# Altium schematic symbol library Schlib.SchLib: 39 symbols
Pins are listed as number, name and electrical type; pins without a type are passive.

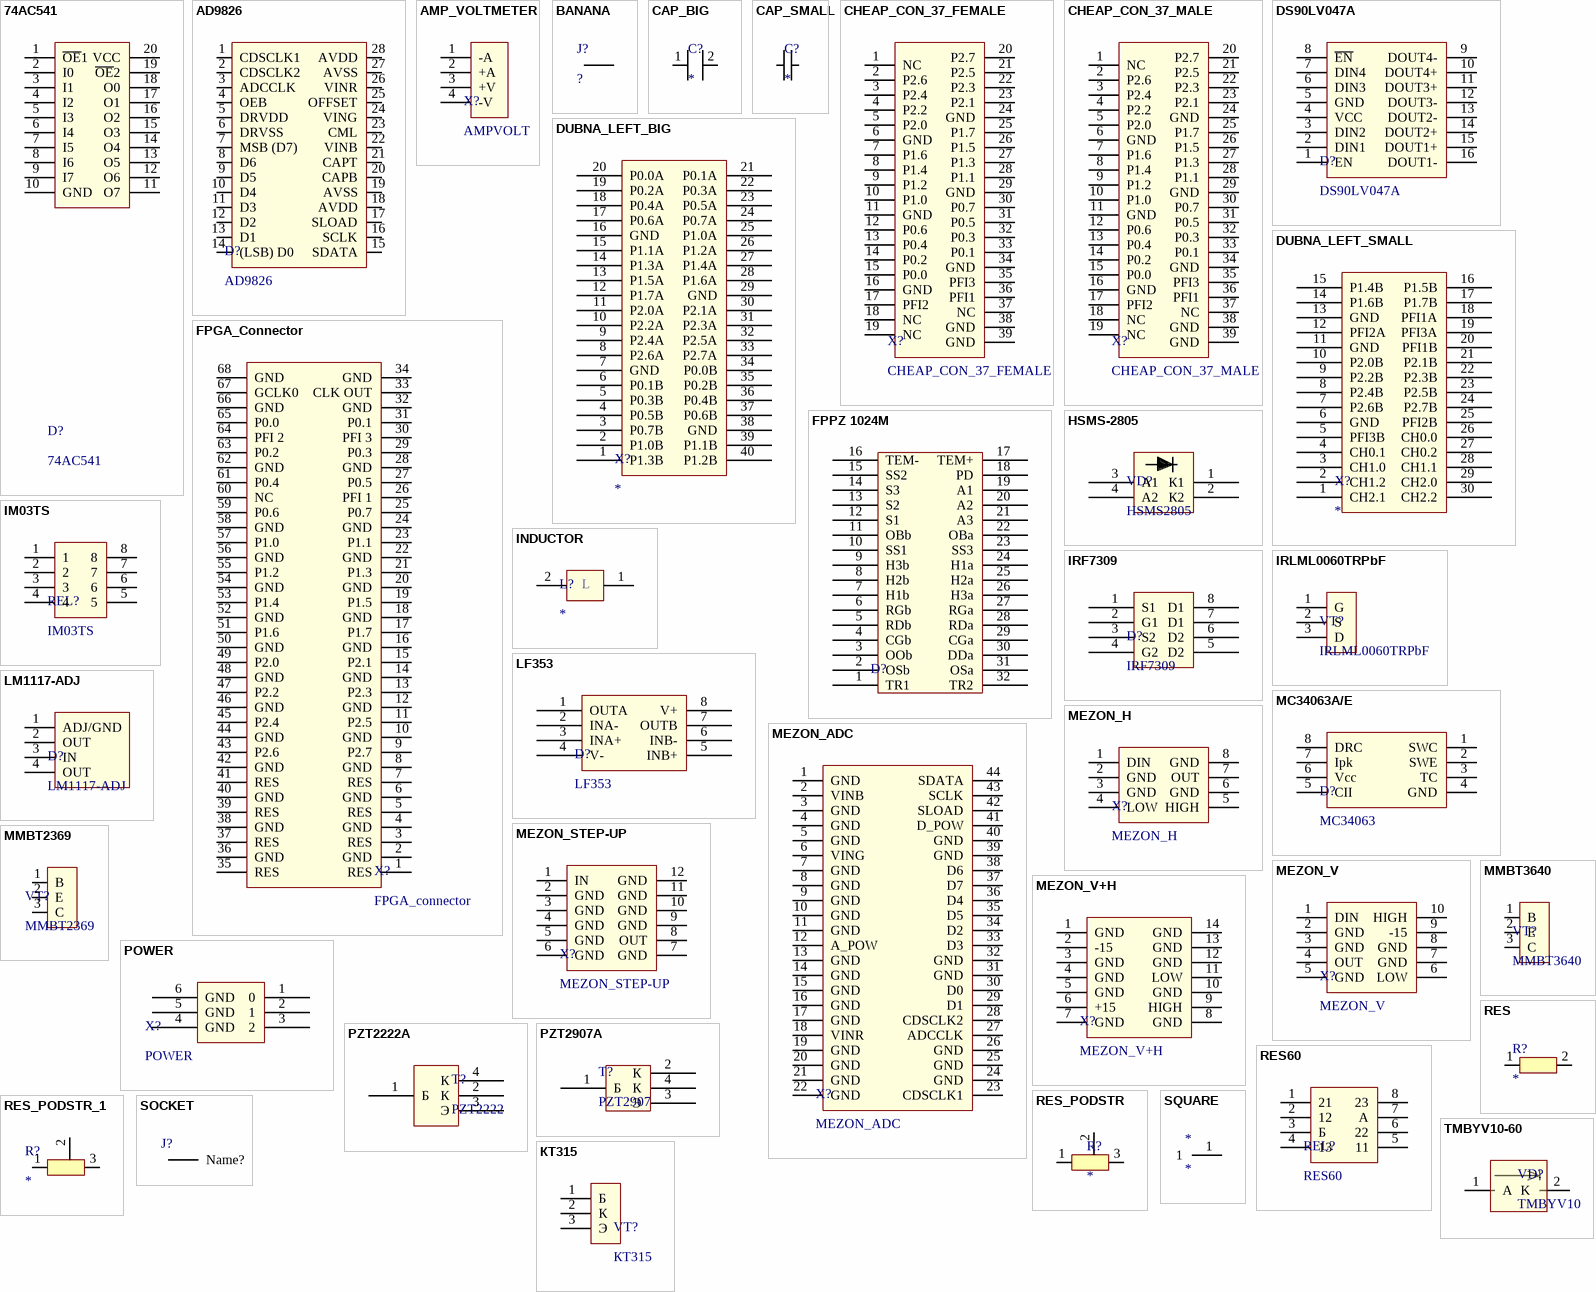
[diagram p0: symbols 74AC541 to КТ315]

## 74AC541
designator D?
footprint 20S_M (20-Pin Small Outline Integrated Circuit 1.27 mm Pitch, IPC Low Density)
pins: 1 ~{OE}1, 2 I0, 3 I1, 4 I2, 5 I3, 6 I4, 7 I5, 8 I6, 9 I7, 10 GND, 11 O7, 12 O6, 13 O5, 14 O4, 15 O3, 16 O2, 17 O1, 18 O0, 19 ~{OE}2, 20 VCC

## AD9826
designator D?
footprint SSOP-28
pins: 1 CDSCLK1, 2 CDSCLK2, 3 ADCCLK, 4 OEB, 5 DRVDD, 6 DRVSS, 7 MSB (D7), 8 D6, 9 D5, 10 D4, 11 D3, 12 D2, 13 D1, 14 (LSB) D0, 15 SDATA, 16 SCLK, 17 SLOAD, 18 AVDD, 19 AVSS, 20 CAPB, 21 CAPT, 22 VINB, 23 CML, 24 VING, 25 OFFSET, 26 VINR, 27 AVSS, 28 AVDD

## AMP_VOLTMETER
designator X?, comment AMPVOLT
footprint AMP_VOLTMETER
pins: 1 -A, 2 +A, 3 +V, 4 -V

## BANANA
designator J?, comment ?
footprint BANANA
pins: 1 BANAN

## CAP_BIG
designator C?
footprint Cap_BIG (FROM_MAX)
pins: 1, 2

## CAP_SMALL
designator C?
0805
footprint CAP_SMALL (FROM_MAX)
pins: 1, 2

## CHEAP_CON_37_FEMALE
designator X?
footprint CHEAP_CONN_FEMALE
pins: 1 NC, 2 P2.6, 3 P2.4, 4 P2.2, 5 P2.0, 6 GND, 7 P1.6, 8 P1.4, 9 P1.2, 10 P1.0, 11 GND, 12 P0.6, 13 P0.4, 14 P0.2, 15 P0.0, 16 GND, 17 PFI2, 18 NC, 19 NC, 20 P2.7, 21 P2.5, 22 P2.3, 23 P2.1, 24 GND, 25 P1.7, 26 P1.5, 27 P1.3, 28 P1.1, 29 GND, 30 P0.7, 31 P0.5, 32 P0.3, 33 P0.1, 34 GND, 35 PFI3, 36 PFI1, 37 NC, 38 GND, 39 GND

## CHEAP_CON_37_MALE
designator X?
footprint CHEAP_CONN_MALE
pins: 1 NC, 2 P2.6, 3 P2.4, 4 P2.2, 5 P2.0, 6 GND, 7 P1.6, 8 P1.4, 9 P1.2, 10 P1.0, 11 GND, 12 P0.6, 13 P0.4, 14 P0.2, 15 P0.0, 16 GND, 17 PFI2, 18 NC, 19 NC, 20 P2.7, 21 P2.5, 22 P2.3, 23 P2.1, 24 GND, 25 P1.7, 26 P1.5, 27 P1.3, 28 P1.1, 29 GND, 30 P0.7, 31 P0.5, 32 P0.3, 33 P0.1, 34 GND, 35 PFI3, 36 PFI1, 37 NC, 38 GND, 39 GND

## DS90LV047A
designator D?
footprint SOP65P640X110-16N
pins: 1 EN, 2 DIN1, 3 DIN2, 4 VCC, 5 GND, 6 DIN3, 7 DIN4, 8 ~{EN}, 9 DOUT4-, 10 DOUT4+, 11 DOUT3+, 12 DOUT3-, 13 DOUT2-, 14 DOUT2+, 15 DOUT1+, 16 DOUT1-

## DUBNA_LEFT_BIG
designator X?
footprint DUBNA_LEFT_BIG
pins: 1 P1.3B, 2 P1.0B, 3 P0.7B, 4 P0.5B, 5 P0.3B, 6 P0.1B, 7 GND, 8 P2.6A, 9 P2.4A, 10 P2.2A, 11 P2.0A, 12 P1.7A, 13 P1.5A, 14 P1.3A, 15 P1.1A, 16 GND, 17 P0.6A, 18 P0.4A, 19 P0.2A, 20 P0.0A, 21 P0.1A, 22 P0.3A, 23 P0.5A, 24 P0.7A, 25 P1.0A, 26 P1.2A, 27 P1.4A, 28 P1.6A, 29 GND, 30 P2.1A, 31 P2.3A, 32 P2.5A, 33 P2.7A, 34 P0.0B, 35 P0.2B, 36 P0.4B, 37 P0.6B, 38 GND, 39 P1.1B, 40 P1.2B

## DUBNA_LEFT_SMALL
designator X?
footprint DUBNA_LEFT_SMALL
pins: 1 CH2.1, 2 CH1.2, 3 CH1.0, 4 CH0.1, 5 PFI3B, 6 GND, 7 P2.6B, 8 P2.4B, 9 P2.2B, 10 P2.0B, 11 GND, 12 PFI2A, 13 GND, 14 P1.6B, 15 P1.4B, 16 P1.5B, 17 P1.7B, 18 PFI1A, 19 PFI3A, 20 PFI1B, 21 P2.1B, 22 P2.3B, 23 P2.5B, 24 P2.7B, 25 PFI2B, 26 CH0.0, 27 CH0.2, 28 CH1.1, 29 CH2.0, 30 CH2.2

## FPGA_Connector
designator X?, comment FPGA_connector
footprint FPGA (FPGA Connector)
pins: 1 RES, 2 GND, 3 RES, 4 GND, 5 RES, 6 GND, 7 RES, 8 GND, 9 P2.7, 10 GND, 11 P2.5, 12 GND, 13 P2.3, 14 GND, 15 P2.1, 16 GND, 17 P1.7, 18 GND, 19 P1.5, 20 GND, 21 P1.3, 22 GND, 23 P1.1, 24 GND, 25 P0.7, 26 PFI 1, 27 P0.5, 28 GND, 29 P0.3, 30 PFI 3, 31 P0.1, 32 GND, 33 CLK OUT, 34 GND, 35 RES, 36 GND, 37 RES, 38 GND, 39 RES, 40 GND, 41 RES, 42 GND, 43 P2.6, 44 GND, 45 P2.4, 46 GND, 47 P2.2, 48 GND, 49 P2.0, 50 GND, 51 P1.6, 52 GND, 53 P1.4, 54 GND, 55 P1.2, 56 GND, 57 P1.0, 58 GND, 59 P0.6, 60 NC, 61 P0.4, 62 GND, 63 P0.2, 64 PFI 2, 65 P0.0, 66 GND, 67 GCLK0, 68 GND

## FPPZ 1024M
designator D?  (value not drawn)
footprint FPPZ_1024M
pins: 1 TR1, 2 OSb, 3 OOb, 4 CGb, 5 RDb, 6 RGb, 7 H1b, 8 H2b, 9 H3b, 10 SS1, 11 OBb, 12 S1, 13 S2, 14 S3, 15 SS2, 16 TEM-, 17 TEM+, 18 PD, 19 A1, 20 A2, 21 A3, 22 OBa, 23 SS3, 24 H1a, 25 H2a, 26 H3a, 27 RGa, 28 RDa, 29 CGa, 30 DDa, 31 OSa, 32 TR2

## HSMS-2805
designator VD?, comment HSMS2805
footprint SOT-143B
pins: 1 К1, 2 К2, 3 А1, 4 А2

## IM03TS
designator REL?
footprint IM03TS
pins: 1, 2, 3, 4, 5, 6, 7, 8

## INDUCTOR
designator L?
footprint 1812
pins: 1, 2
text: L

## IRF7309
designator D?
footprint SOIC127P600X175-8N
pins: 1 S1, 2 G1, 3 S2, 4 G2, 5 D2, 6 D2, 7 D1, 8 D1

## IRLML0060TRPbF
designator VT?
footprint SOT23-BEC_MMBT3640*(Primary)
pins: 1 G, 2 S, 3 D

## LF353
designator D?
footprint SOIC127P600X175-8N
pins: 1 OUTA, 2 INA-, 3 INA+, 4 V-, 5 INB+, 6 INB-, 7 OUTB, 8 V+

## LM1117-ADJ
designator D?
footprint SOT230P700X180-4N
pins: 1 ADJ/GND, 2 OUT, 3 IN, 4 OUT

## MC34063A/E
designator D?, comment MC34063
footprint SOIC127P600X175-8N
pins: 1 SWC, 2 SWE, 3 TC, 4 GND, 5 CII, 6 Vcc, 7 Ipk, 8 DRC

## MEZON_ADC
designator X?
footprint MEZON_ADC
pins: 1 GND, 2 VINB, 3 GND, 4 GND, 5 GND, 6 VING, 7 GND, 8 GND, 9 GND, 10 GND, 11 GND, 12 A_POW, 13 GND, 14 GND, 15 GND, 16 GND, 17 GND, 18 VINR, 19 GND, 20 GND, 21 GND, 22 GND, 23 CDSCLK1, 24 GND, 25 GND, 26 GND, 27 ADCCLK, 28 CDSCLK2, 29 D1, 30 D0, 31 GND, 32 GND, 33 D3, 34 D2, 35 D5, 36 D4, 37 D7, 38 D6, 39 GND, 40 GND, 41 D_POW, 42 SLOAD, 43 SCLK, 44 SDATA

## MEZON_H
designator X?
footprint MEZON_H
pins: 1 DIN, 2 GND, 3 GND, 4 LOW, 5 HIGH, 6 GND, 7 OUT, 8 GND

## MEZON_STEP-UP
designator X?
footprint MEZON_STEP-UP
pins: 1 IN, 2 GND, 3 GND, 4 GND, 5 GND, 6 GND, 7 GND, 8 OUT, 9 GND, 10 GND, 11 GND, 12 GND

## MEZON_V
designator X?
footprint MEZON_V
pins: 1 DIN, 2 GND, 3 GND, 4 OUT, 5 GND, 6 LOW, 7 GND, 8 GND, 9 -15, 10 HIGH

## MEZON_V+H
designator X?
footprint MEZON_V+H
pins: 1 GND, 2 -15, 3 GND, 4 GND, 5 GND, 6 +15, 7 GND, 8 GND, 9 HIGH, 10 GND, 11 LOW, 12 GND, 13 GND, 14 GND

## MMBT2369
designator VT?
footprint SOT23-BEC_MMBT3640*(Primary)
pins: 1 B, 2 E, 3 C

## MMBT3640
designator VT?
footprint SOT23-BEC_MMBT3640*(Primary)
pins: 1 B, 2 E, 3 C

## POWER
designator X?
footprint POWER
pins: 1 0, 2 1, 3 2, 4 GND, 5 GND, 6 GND

## PZT2222A
designator T?, comment PZT2222
footprint SOT230P700X180-4N
pins: 1 Б, 2 К, 3 Э, 4 К

## PZT2907A
designator T?, comment PZT2907
footprint SOT230P700X180-4N
pins: 1 Б, 2 К, 3 Э, 4 К

## RES
designator R?
footprint RES (FROM_MAX)
pins: 1, 2

## RES60
designator REL?
footprint RES60
pins: 1 21, 2 12, 3 Б, 4 13, 5 11, 6 22, 7 A, 8 23

## RES_PODSTR
designator R?
footprint PODSR_RES
pins: 1, 2, 3

## RES_PODSTR_1
designator R?
footprint PODSTR_RES_1
pins: 1, 2, 3

## SOCKET
designator J?, comment Name?  (value not drawn)
footprint SOCKET
pins: 1 Name?

## SQUARE
designator *
footprint SQUARE
footprint SQUARE
pins: 1

## TMBYV10-60
designator VD?, comment TMBYV10
footprint TMBYV10-60
pins: 1 A, 2 K

## КТ315
designator VT?
footprint KT315
pins: 1 Б, 2 К, 3 Э